# EAGLE library part B8P-VH (library con-JST VH)
JST VH Series header 3.96mm pitch disconnectable crimp style connectors, vertical (side entry type), 8 pins
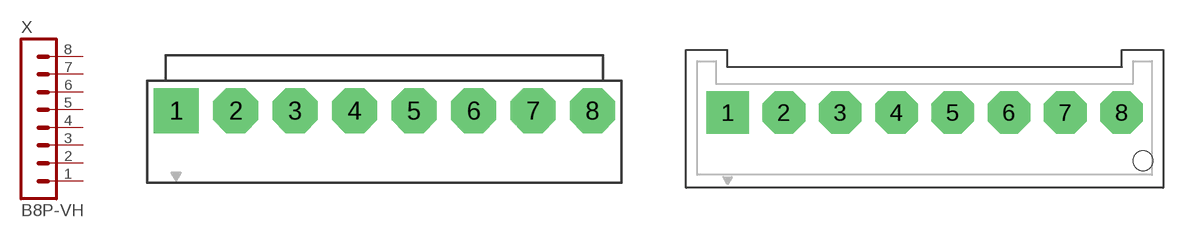
[diagram p2: symbol with the pads of B8P-VH; footprints B8P-VH, B8P-VH-FB-B]

Designator prefix X

## B8P-VH  [B8P-VH]
1  1  pas
2  2  pas
3  3  pas
4  4  pas
5  5  pas
6  6  pas
7  7  pas
8  8  pas

## B8P-VH-B  [B8P-VH]
Pads as for B8P-VH

## B8P-VH-FB-B  [B8P-VH-FB-B]
Pads as for B8P-VH

## Footprint B8P-VH (pad centres in mm)
JST VH Series header 3.96mm pitch disconnectable crimp style connectors, vertical (top entry type), 8 pins
drill 1.7 pad 3 square: 1 -13.86,0
drill 1.7 pad 3 octagon: 2 -9.9,0; 3 -5.94,0; 4 -1.98,0; 5 1.98,0; 6 5.94,0; 7 9.9,0; 8 13.86,0

## Footprint B8P-VH-FB-B (pad centres in mm)
JST VH Series header 3.96mm pitch disconnectable crimp style connectors, vertical (top entry type), 8 pins
drill 1.7 pad 3 square: 1 -13.86,0
drill 1.7 pad 3 octagon: 2 -9.9,0; 3 -5.94,0; 4 -1.98,0; 5 1.98,0; 6 5.94,0; 7 9.9,0; 8 13.86,0
hole 1.4 at 15.36,-3.4